# Altium footprint library MEGA.PcbLib: 237 footprints (part 7 of 15)
Each footprint in its own frame and in the unit in brackets; x right, y up, seen from the top. Pads: shape width x height; smd on the part's side, far side on the other; paste and mask are expansions set on the pad; w line width, h text height; cw(c..) or ccw(c..) is an arc to the next point about the centre after c.
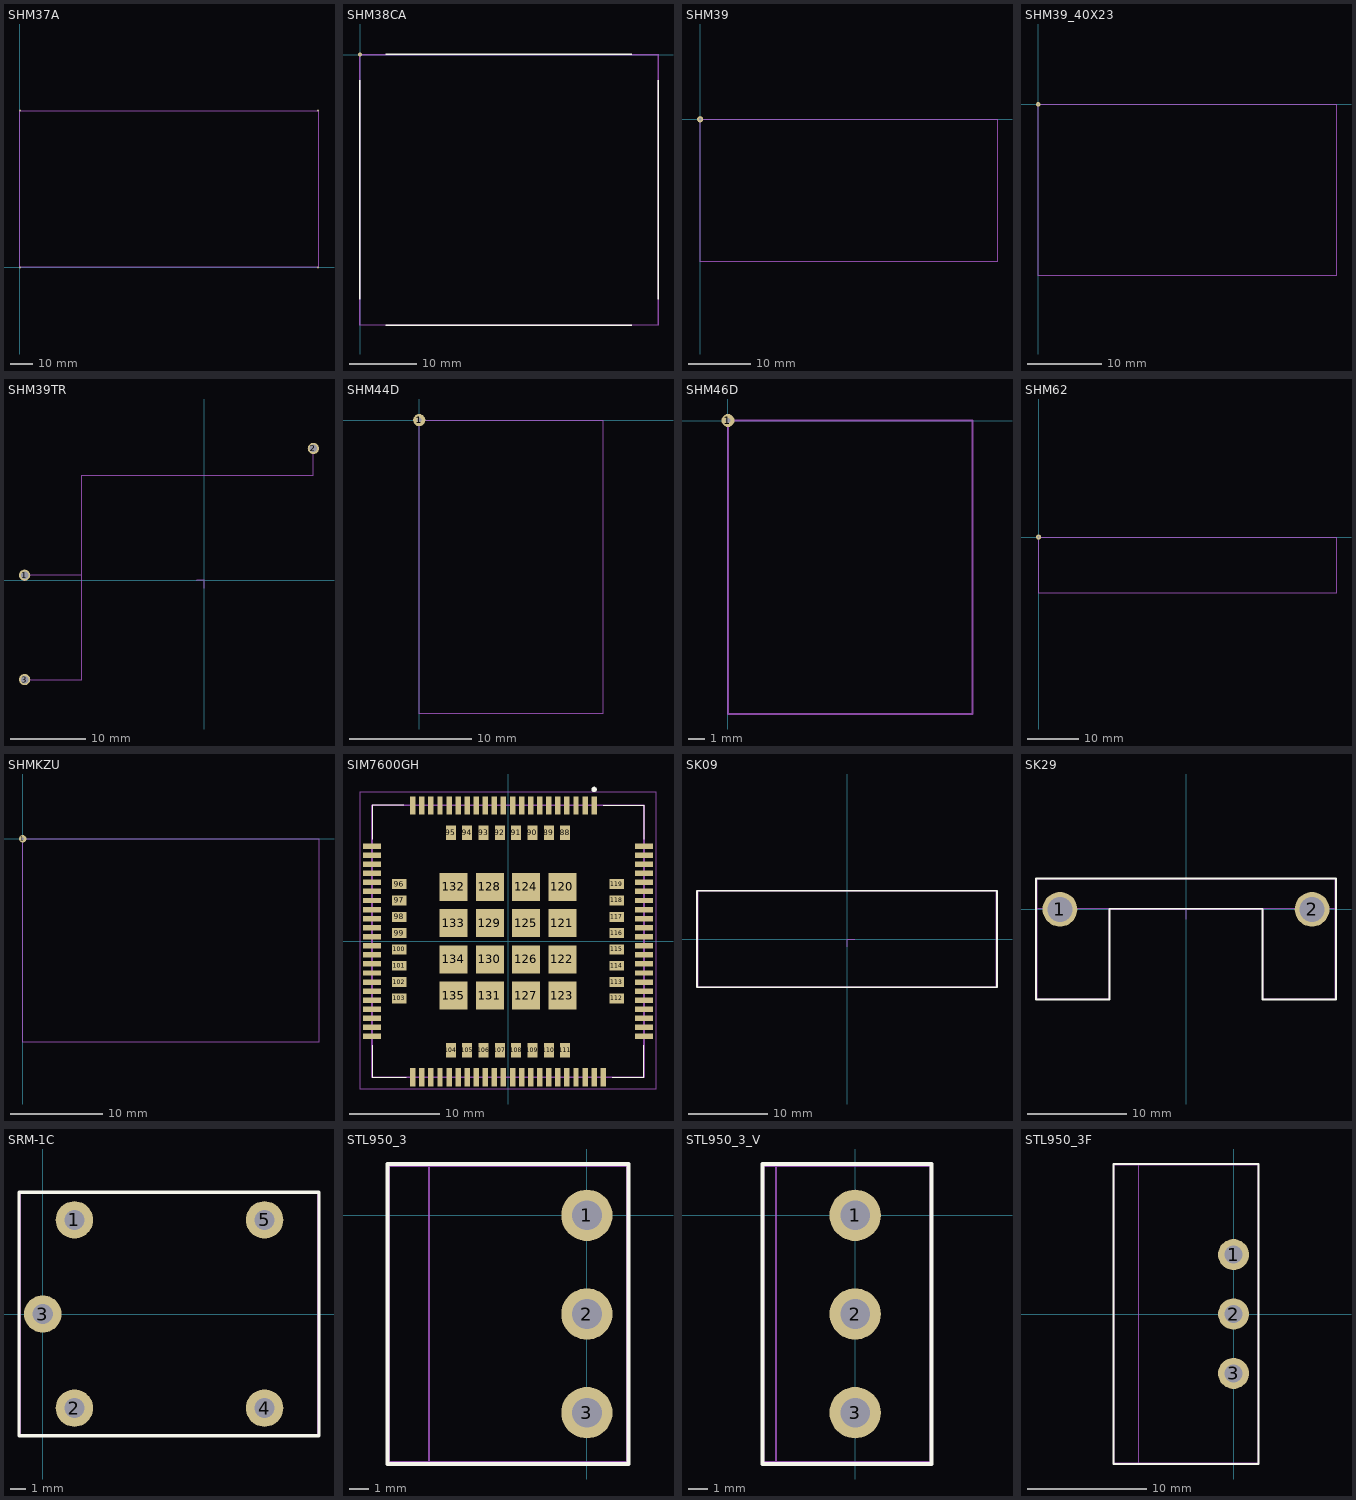
[diagram p6: the footprints below, top view; thin cyan lines are the x and y axes]

## SHM37A [mm]
pads (4):
  round 0.8 hole 0.3: 1(0,0) 2(133,0) 3(133,70) 4(0,70)
Top Solder:
  lines w1: 0,3 0,0 3,0 ; 0,67 0,70 3,70 ; 130,0 133,0 133,3 ; 130,70 133,70 133,67
Bottom Solder:
  lines w1: 0,3 0,0 3,0 ; 0,67 0,70 3,70 ; 130,0 133,0 133,3 ; 130,70 133,70 133,67
Mechanical 15:
  lines w0.1: 0,0 133,0 133,70 0,70 0,0
Mechanical 16:
  lines w0.1: 0,0 133,0 133,70 0,70 0,0
Multi-Layer:
  text "Value" at 0.67,57.416 h0.75

## SHM38CA [mm]
pads (1):
  round 0.6 hole 0.2: 1(0,0)
Top Overlay:
  lines w0.2: -0.064,-36.195 -0.064,-3.81 ; 3.81,-40.069 40.195,-40.069 ; 3.81,0.064 40.195,0.064 ; 44.069,-36.195 44.069,-3.81
Bottom Overlay:
  lines w0.2: -0.064,-36.195 -0.064,-3.81 ; 3.81,-40.069 40.195,-40.069 ; 3.81,0.064 40.195,0.064 ; 44.069,-36.195 44.069,-3.81
Top Solder:
  lines w1: 0,-36.957 0,-40.005 3.048,-40.005 ; 0,-3.048 0,0 3.048,0 ; 40.957,-40.005 44.005,-40.005 44.005,-36.957 ; 40.957,0 44.005,0 44.005,-3.048
Bottom Solder:
  lines w1: 0,-36.957 0,-40.005 3.048,-40.005 ; 0,-3.048 0,0 3.048,0 ; 40.957,-40.005 44.005,-40.005 44.005,-36.957 ; 40.957,0 44.005,0 44.005,-3.048
Mechanical 15:
  lines w0.1: 0,-40.005 44.005,-40.005 44.005,0 0,0 0,-40.005
Mechanical 16:
  lines w0.1: 0,-40.005 44.005,-40.005 44.005,0 0,0 0,-40.005
Multi-Layer:
  text "Value" at 0.67,-2.584 h0.75
Mechanical 20:
  lines w0.1: -0.064,-40.069 44.069,-40.069 44.069,0.064 -0.064,0.064 -0.064,-40.069

## SHM39 [mm]
pads (1):
  round 1 hole 0.4 mask+0.05: 1(0,0)
Top Solder:
  lines w1.5: 0,-20.002 0,-23.05 3.048,-23.05 ; 0,-3.048 0,0 3.048,0 ; 44.958,-23.05 48.006,-23.05 48.006,-20.002 ; 44.958,0 48.006,0 48.006,-3
Mechanical 15:
  lines w0.1: 0,-23.05 48.006,-23.05 48.006,0 0,0 0,-23.05

## SHM39_40X23 [mm]
pads (1):
  round 0.6 hole 0.2: 1(0,0)
Top Solder:
  lines w1.2: 0,-20.002 0,-23.05 3.048,-23.05 ; 0,-3.048 0,0 3.048,0 ; 37.02,-23.05 40.005,-23.05 40.005,-20.002 ; 37.02,0 40.005,0 40.005,-3
Mechanical 15:
  lines w0.1: 0,-23.05 40.005,-23.05 40.005,0 0,0 0,-23.05

## SHM39TR [mm]
pads (3):
  round 1.5 hole 1 mask+0.05: 1(-23.939,0.699) 2(14.541,17.59) 3(-23.939,-13.208)
Mechanical 15:
  lines w0.1: -23.939,-13.208 -16.319,-13.208 -16.319,0.699 ; -23.939,0.699 -16.319,0.699 ; 14.541,17.59 14.541,14.034 -16.319,14.034 -16.319,0.699
Mechanical 19:
  lines w0.1: -1.016,0 0,0 0,-1.016

## SHM44D [mm]
pads (1):
  round 1 hole 0.4: 1(0,0)
Top Solder:
  lines w1: 0,-21 0,-24 3,-24 ; 0,-3 0,0 3,0 ; 12,-24 15,-24 15,-21 ; 12,0 15,0 15,-3
Bottom Solder:
  lines w1: 0,-21 0,-24 3,-24 ; 0,-3 0,0 3,0 ; 12,-24 15,-24 15,-21 ; 12,0 15,0 15,-3
Mechanical 15:
  lines w0.1: 0,-24 15,-24 ; 0,-24 0,0 ; 0,-24 15,-24 ; 0,-24 0,0 ; 0,0 15,0 ; 0,0 15,0 ; 15,-24 15,0 ; 15,-24 15,0

## SHM46D [mm]
pads (1):
  round 0.8 hole 0.3: 1(0,0)
Top Solder:
  lines w1: 0,-15.158 0,-18 3,-18 ; 0,-3 0,0 3,0 ; 12,-18 15,-18 15,-15.158 ; 12,0 15,0 15,-3
Mechanical 15:
  lines w0.1: 0,-18 15,-18 15,0 0,0 0,-18
Multi-Layer:
  text "Value" at 0.67,-2.584 h0.75

## SHM62 [mm]
pads (1):
  round 1 hole 0.4: 1(0,0)
Top Solder:
  lines w1: 0,-8 0,-11 3,-11 ; 0,-3 0,0 3,0 ; 55,-11 58,-11 58,-8 ; 55,0 58,0 58,-3
Bottom Solder:
  lines w1: 0,-8 0,-11 3,-11 ; 0,-3 0,0 3,0 ; 55,-11 58,-11 58,-8 ; 55,0 58,0 58,-3
Mechanical 15:
  lines w0.1: 0,-11 58,-11 58,0 0,0 0,-11
Mechanical 16:
  lines w0.1: 0,-11 58,-11 58,0 0,0 0,-11

## SHMKZU [mm]
pads (1):
  round 0.8 hole 0.3: 1(0,0)
Top Solder:
  lines w1.5: 0,-19 0,-22 3.048,-22 ; 0,-3.048 0,0 3.048,0 ; 28.958,-22.05 32.006,-22.05 32.006,-19.002 ; 28.958,0 32.006,0 32.006,-3
Bottom Solder:
  lines w1.5: 0,-19 0,-22 3,-22 ; 0,-3 0,0 3,0 ; 29,-22 32,-22 32,-19 ; 29,0 32,0 32,-3
Mechanical 15:
  lines w0.1: 0,-22 32,-22 32,0 0,0 0,-22
Mechanical 16:
  lines w0.1: 0,-22 32,-22 32,0 0,0 0,-22
Multi-Layer:
  text "Value" at 0.67,-2.584 h0.75

## SIM7600GH [mm]
pads (135):
  rect 0.6x2 smd mask+0.05: 1(9.5,15) 2(8.5,15) 3(7.5,15) 4(6.5,15) 5(5.5,15) 6(4.5,15) 7(3.5,15) 8(2.5,15) 9(1.5,15) 10(0.5,15) 11(-0.5,15) 12(-1.5,15) 13(-2.5,15) 14(-3.5,15) 15(-4.5,15) 16(-5.5,15) 17(-6.5,15) 18(-7.5,15) 19(-8.5,15) 20(-9.5,15) 41(-9.5,-15) 42(-8.5,-15) 43(-7.5,-15) 44(-6.5,-15) 45(-5.5,-15) 46(-4.5,-15) 47(-3.5,-15) 48(-2.5,-15) 49(-1.5,-15) 50(-0.5,-15) 51(0.5,-15) 52(1.5,-15) 53(2.5,-15) 54(3.5,-15) 55(4.5,-15) 56(5.5,-15) 57(6.5,-15) 58(7.5,-15) 59(8.5,-15) 60(9.5,-15) 81(-10.5,15) 82(-10.5,-15) 85(10.5,-15)
  rect 2x0.6 smd mask+0.05: 21(-15,9.5) 22(-15,8.5) 23(-15,7.5) 24(-15,6.5) 25(-15,5.5) 26(-15,4.5) 27(-15,3.5) 28(-15,2.5) 29(-15,1.5) 30(-15,0.5) 31(-15,-0.5) 32(-15,-1.5) 33(-15,-2.5) 34(-15,-3.5) 35(-15,-4.5) 36(-15,-5.5) 37(-15,-6.5) 38(-15,-7.5) 39(-15,-8.5) 40(-15,-9.5) 61(15,-9.5) 62(15,-8.5) 63(15,-7.5) 64(15,-6.5) 65(15,-5.5) 66(15,-4.5) 67(15,-3.5) 68(15,-2.5) 69(15,-1.5) 70(15,-0.5) 71(15,0.5) 72(15,1.5) 73(15,2.5) 74(15,3.5) 75(15,4.5) 76(15,5.5) 77(15,6.5) 78(15,7.5) 79(15,8.5) 80(15,9.5) 83(-15,-10.5) 84(-15,10.5) 86(15,10.5) 87(15,-10.5)
  rect 1.1x1.6 smd mask+0.05: 88(6.3,12) 89(4.5,12) 90(2.7,12) 91(0.9,12) 92(-0.9,12) 93(-2.7,12) 94(-4.5,12) 95(-6.3,12) 104(-6.3,-12) 105(-4.5,-12) 106(-2.7,-12) 107(-0.9,-12) 108(0.9,-12) 109(2.7,-12) 110(4.5,-12) 111(6.3,-12)
  rect 1.6x1.1 smd mask+0.05: 96(-12,6.3) 97(-12,4.5) 98(-12,2.7) 99(-12,0.9) 100(-12,-0.9) 101(-12,-2.7) 102(-12,-4.5) 103(-12,-6.3) 112(12,-6.3) 113(12,-4.5) 114(12,-2.7) 115(12,-0.9) 116(12,0.9) 117(12,2.7) 118(12,4.5) 119(12,6.3)
  rect 3.1x3.1 smd mask+0.05: 120(6,6) 121(6,2) 122(6,-2) 123(6,-6) 124(2,6) 125(2,2) 126(2,-2) 127(2,-6) 128(-2,6) 129(-2,2) 130(-2,-2) 131(-2,-6) 132(-6,6) 133(-6,2) 134(-6,-2) 135(-6,-6)
Top Overlay:
  lines w0.1: -15,-11.5 -15,-15 -11.25,-15 ; -15,11.25 -15,15 -11.5,15 ; 10.5,15 15,15 15,11.25 ; 11.5,-15 15,-15 15,-11.5
  lines w0.5: 9.5,16.7 9.5,16.7 ; 9.5,16.7 ccw(c9.5,16.75) 9.5,16.8 ; 9.5,16.7 cw(c9.5,16.75) 9.5,16.8 ; 9.5,16.7 9.5,16.7 ; 9.5,16.7 ccw(c9.5,16.75) 9.5,16.8 ; 9.5,16.8 9.5,16.8
Mechanical 15:
  lines w0.2: -15,-15 15,-15 15,15 -15,15 -15,-15
  text "1" at 10.351,15.367 h0.75
Multi-Layer:
  text "Value" at 0.017,-0.55 h0.75
Mechanical 20:
  lines w0.1: -16.3,-16.3 16.3,-16.3 16.3,16.5 -16.3,16.5 -16.3,-16.3

## SK09 [mm]
Top Overlay:
  lines w0.2: -18.9,-6.1 18.9,-6.1 18.9,6.1 -18.9,6.1 -18.9,-6.1
Mechanical 15:
  lines w0.1: -18.8,-6 18.8,-6 18.8,6 -18.8,6 -18.8,-6
Multi-Layer:
  text "Value" at -1.235,-2.025 h0.75
Mechanical 19:
  lines w0.1: 0,-1 0,0 1,0
Mechanical 20:
  lines w0.1: -18.9,-6.1 18.9,-6.1 18.9,6.1 -18.9,6.1 -18.9,-6.1

## SK29 [mm]
pads (2):
  round 3.5 hole 2.5 mask+0.05: 1(-12.7,0) 2(12.7,0)
Top Overlay:
  lines w0.2: -15.113,-9.08 -7.683,-9.08 -7.683,0.064 7.683,0.064 7.683,-9.08 15.113,-9.08 15.113,3.111 -15.113,3.111 -15.113,-9.08
Mechanical 15:
  lines w0.01: -15.05,-9.017 -7.747,-9.017 -7.747,0 7.747,0 7.747,-9.017 15.05,-9.017 15.05,3.048 -15.05,3.048 -15.05,-9.017
Mechanical 19:
  lines w0.1: 0,-1 0,0 1,0
Mechanical 20:
  lines w0.01: -15.113,0.064 15.113,0.064 15.113,3.111 -15.113,3.111 -15.113,0.064

## SRM-1C [mm]
pads (5):
  round 2.4 hole 1.3 mask+0.05: 1(2.032,6.032) 2(2.032,-6.032) 3(0,0) 4(14.224,-6.032) 5(14.224,6.032)
Top Overlay:
  lines w0.2: -1.524,-7.81 17.716,-7.81 17.716,7.81 -1.524,7.81 -1.524,-7.81
Mechanical 15:
  lines w0.1: -1.46,-7.747 17.653,-7.747 17.653,7.747 -1.46,7.747 -1.46,-7.747
Mechanical 20:
  lines w0.1: -1.524,-7.81 17.716,-7.81 17.716,7.81 -1.524,7.81 -1.524,-7.81

## STL950_3 [mm]
pads (3):
  round 2.6 hole 1.5 mask+0.05: 1(0,0) 2(0,-5) 3(0,-10)
Top Overlay:
  lines w0.2: -10.096,-12.6 2.095,-12.6 2.095,2.6 -10.096,2.6 -10.096,-12.6
Mechanical 15:
  circle w0.1: c0,0 r0.75
  circle w0.1: c0,-10 r0.75
  circle w0.1: c0,-5 r0.75
  lines w0.1: -8,-12.5 -8,2.5 ; -10.033,-12.5 2.032,-12.5 2.032,2.5 -10.033,2.5 -10.033,-12.5
Mechanical 16:
  circle w0.1: c0,0 r0.75
  circle w0.1: c0,-10 r0.75
  circle w0.1: c0,-5 r0.75
Multi-Layer:
  text "Value" at -6.252,-6.33 h0.75
Mechanical 19:
  lines w0.1: 0,-0.635 0,0 0.635,0
Mechanical 20:
  lines w0.1: -10.096,-12.6 2.095,-12.6 2.095,2.6 -10.096,2.6 -10.096,-12.6

## STL950_3_V [mm]
pads (3):
  round 2.6 hole 1.5 mask+0.05: 1(0,0) 2(0,-5) 3(0,-10)
Top Overlay:
  lines w0.2: -4.699,-12.6 3.873,-12.6 3.873,2.6 -4.699,2.6 -4.699,-12.6
Mechanical 15:
  circle w0.1: c0,0 r0.75
  circle w0.1: c0,-10 r0.75
  circle w0.1: c0,-5 r0.75
  lines w0.1: -4,-12.5 -4,2.5 ; -4.635,-12.5 3.81,-12.5 3.81,2.5 -4.635,2.5 -4.635,-12.5
Mechanical 16:
  circle w0.1: c0,0 r0.75
  circle w0.1: c0,-10 r0.75
  circle w0.1: c0,-5 r0.75
Multi-Layer:
  text "Value" at -0.981,-8.172 h0.75
Mechanical 19:
  lines w0.1: 0,-0.635 0,0 0.635,0
Mechanical 20:
  lines w0.1: -4.699,-12.6 3.873,-12.6 3.873,2.6 -4.699,2.6 -4.699,-12.6

## STL950_3F [mm]
pads (3):
  round 2.6 hole 1.5 mask+0.05: 1(0,5) 2(0,0) 3(0,-5)
Top Overlay:
  lines w0.2: -10.096,-12.62 2.095,-12.62 2.095,12.62 -10.096,12.62 -10.096,-12.62
Mechanical 15:
  circle w0.1: c0,5 r0.75
  circle w0.1: c0,-5 r0.75
  circle w0.1: c0,0 r0.75
  lines w0.1: -8,-12.557 -8,12.557 ; -10.033,-12.557 2.032,-12.557 2.032,12.557 -10.033,12.557 -10.033,-12.557
Mechanical 16:
  circle w0.1: c0,5 r0.75
  circle w0.1: c0,-5 r0.75
  circle w0.1: c0,0 r0.75
Multi-Layer:
  text "Value" at -6.252,-1.33 h0.75
Mechanical 19:
  lines w0.1: 0,4.365 0,5 0.635,5
Mechanical 20:
  lines w0.1: -10.096,-12.62 2.095,-12.62 2.095,12.62 -10.096,12.62 -10.096,-12.62